# EAGLE library part BQ27X00 (library GTA04b7)
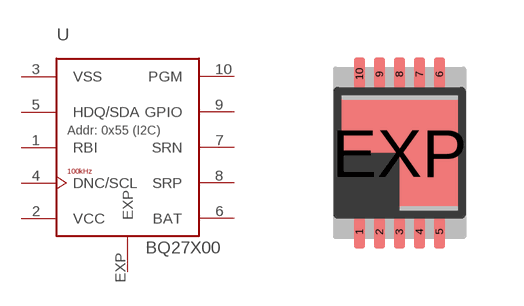
[diagram p7: symbol with the pads of S-PVSON-N10-4X3; footprint S-PVSON-N10-4X3]

Designator prefix -

## BQ27X00DRK  [S-PVSON-N10-4X3]
1  RBI  pas
2  VCC  pwr
3  VSS  pwr
4  DNC/SCL  in
5  HDQ/SDA
6  BAT  pas
7  SRN  pas
8  SRP  pas
9  GPIO
10  PGM  pwr
EXP  EXP  pwr

## Footprint S-PVSON-N10-4X3 (pad centres in mm)
S-PVSON-N10 for 4x3mm package
smd 0.28 x 0.85: 1 -1,-1.975; 2 -0.5,-1.975; 3 0,-1.975; 4 0.5,-1.975; 5 1,-1.975; 6 1,1.975; 7 0.5,1.975; 8 0,1.975; 9 -0.5,1.975; 10 -1,1.975
smd 3 x 2.65: EXP 0,0